# Altium schematic symbol library RLC.SchLib: 155 symbols (part 1 of 2)
Pins are listed as number, name and electrical type; pins without a type are passive.

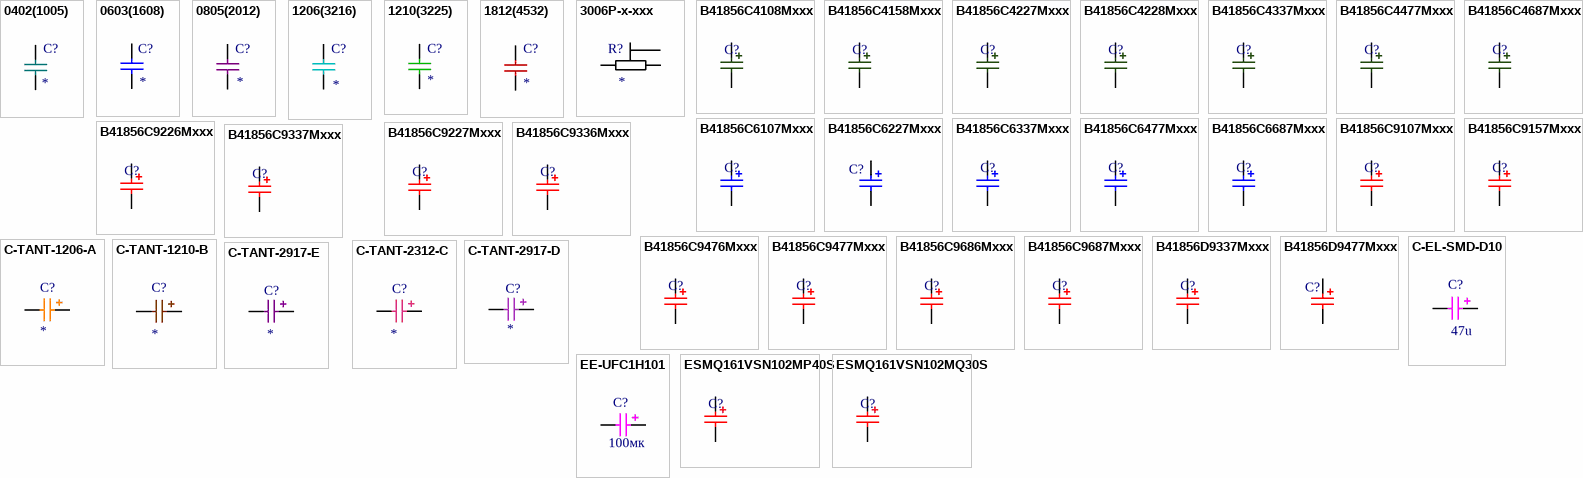
[diagram p0: symbols 0402(1005) to ESMQ161VSN102MQ30S]

## 0402(1005)
designator C?
±10% 50V Ceramic Capacitor X7R 0402; Part Number: CL05BxxxKB5NNNC; Manufacturer: Samsung Electro-Mechanics; TypeComp: Capasitor; ValueDesc: 0402  50V  *Ф ±10%; PVoltage: 50V; Quantity: 1; Package: 0402; Price: 0,1; ShoppingPlace: https://www.digikey.com/product-detail/en/samsung-electro-mechanics/CL05B103KB5NNNC/1276-1028-2-ND/3886686; Tolerance: ±10%; Documentation: http://www.samsungsem.com/kr/support/product-search/mlcc/__icsFiles/afieldfile/2018/07/13/CL05B103KB5NNNC.pdf; ComponentLink1Description: 0402; ComponentLink1URL: http://www.samsungsem.com/kr/support/product-search/mlcc/__icsFiles/afieldfile/2018/07/13/CL05B103KB5NNNC.pdf; Value: *
footprint CAP0402_min
pins: 1, 2

## 0603(1608)
designator C?
±10% 50V Ceramic Capacitor X7R 0603; Part Number: CL10BxxxKB8NNNC; Manufacturer: Samsung Electro-Mechanics; Type: Capasitor; ValueDesc: X7R 0603 (1608)  50V  *Ф ±10%; PVoltage: 50V; Quantity: 1; Package: X7R 0603 (1608); Price: 0,1; ShoppingPlace: https://www.digikey.com/product-detail/en/samsung-electro-mechanics/CL10B104KB8NNNC/1276-1000-2-ND/3886658; Tolerance: ±10%; Documentation: http://www.samsungsem.com/kr/support/product-search/mlcc/__icsFiles/afieldfile/2018/07/24/CL10B104KB8NNNC.pdf; ComponentLink1Description: 0603; ComponentLink1URL: http://www.samsungsem.com/kr/support/product-search/mlcc/__icsFiles/afieldfile/2018/07/24/CL10B104KB8NNNC.pdf; Value: *
footprint CH0603L
pins: 1, 2

## 0805(2012)
designator C?
±5% 50V Ceramic Capacitor C0G, NP0 0805; Part Number: C0805CxxxJ5GACTU; Manufacturer: KEMET; Type: Capasitor; ValueDesc: 0805  50V  *Ф ±5%; PVoltage: 50V; Quantity: 1; Package: 0805; Price: 0,1; ShoppingPlace: https://www.digikey.com/product-detail/en/kemet/C0805C103J5GACTU/399-7992-1-ND/3471715; Tolerance: ±5%; Documentation: https://content.kemet.com/datasheets/KEM_C1003_C0G_SMD.pdf; ComponentLink1Description: 0805; ComponentLink1URL: https://content.kemet.com/datasheets/KEM_C1003_C0G_SMD.pdf; Value: *
footprint CAP0805
pins: 1, 2

## 1206(3216)
designator C?
±5% 50V Ceramic Capacitor C0G, NP0 1206; Part Number: C1206CXXXJ5GACTU; Manufacturer: KEMET; Type: Capasitor; ValueDesc: 1206  50V  *Ф ±5%; PVoltage: 50V; Quantity: 1; Package: 1206; Price: 0,1; ShoppingPlace: https://www.digikey.com/product-detail/en/kemet/C1206C103J5GACTU/399-11177-2-ND/2215038; Tolerance: ±5%; Documentation: https://content.kemet.com/datasheets/KEM_C1003_C0G_SMD.pdf; ComponentLink1Description: 1206; ComponentLink1URL: https://content.kemet.com/datasheets/KEM_C1003_C0G_SMD.pdf; Value: *
footprint CAP1206
pins: 1, 2

## 1210(3225)
designator C?
±10% 50V Ceramic Capacitor X7R 1210 (3225 Metric); Part Number: 12105CXXXKAT2A; Manufacturer: AVX Corporation; Type: Capasitor; ValueDesc: 1210  50V  *Ф ±10%; PVoltage: 50V; Quantity: 1; Package: 1210; Price: 0,1; ShoppingPlace: https://www.digikey.com/product-detail/en/avx-corporation/12105C105KAT2A/478-1622-2-ND/563730; Tolerance: ±10%; Documentation: http://datasheets.avx.com/X7RDielectric.pdf; ComponentLink1Description: 1210; ComponentLink1URL: http://datasheets.avx.com/X7RDielectric.pdf; Value: *
footprint CH1210C (Non polar chip capacitor, size 1210)
pins: 1, 2

## 1812(4532)
designator C?
±10% 100V Ceramic Capacitor X7R 1812 (4532 Metric); Part Number: C4532X7R2AxxxK230KA; Manufacturer: TDK Corporation; Type: Capasitor; Voltage: 100V; Quantity: 1; Package: 1812; Price: 0,2; ShoppingPlace: https://www.digikey.com/product-detail/en/tdk-corporation/C4532X7R2A225K230KA/445-4510-2-ND/2042181; Tolerance: ±10%; Documentation: https://www.digikey.com/product-detail/en/tdk-corporation/C4532X7R2A225K230KA/445-4510-2-ND/2042181; ComponentLink1Description: 1812; ComponentLink1URL: https://www.digikey.com/product-detail/en/tdk-corporation/C4532X7R2A225K230KA/445-4510-2-ND/2042181; ValueDesc: =Package+'  '+PVoltage+'  '+Value+'Ф '+Tolerance+'  '; Value: *
footprint CH1812C
pins: 1, 2

## 3006P-x-xxx
designator R?
3006P-1-103LF, 10 кОм, Резистор подстроечный; Manufacturer: Bourns; Voltage: 50В; TypeComp: Resistor; Power: 0.75W; Part Number: 3006P-1-103LF; Quantity: 1; Package: 3006P; Price: 0,725; ShoppingPlace: https://www.chipdip.by/product/3006p-1-103; Documentation: https://static.chipdip.ru/lib/237/DOC000237854.pdf; ComponentLink1Description: Bourns; ComponentLink1URL: https://static.chipdip.ru/lib/237/DOC000237854.pdf; Value: *
footprint 3006P
pins: 1, 2, 3

## B41856C4108Mxxx
designator C?, comment 680мк  (value not drawn)
Aluminium Electrolytic Capacitors - Radial Leaded ALUMINUM ELECTROLYTIC RADIAL 680 UF 16 V; Part Number: B41856C4108M000; Voltage: 16V; Tolerance: +-20%; TypeComp: Capasitor; GenerateData: Part NumberVoltageValueTolerance; Value: 680мк; Quantity: 1; Package: 10mmx16mm; Price: 1.5; Manufacturer: *; ShoppingPlace: *; Documentation: https://ru.mouser.com/datasheet/2/400/B41856-1220070.pdf; ComponentLink1Description: EPCOS; ComponentLink1URL: https://ru.mouser.com/datasheet/2/400/B41856-1220070.pdf
pins: 1, 2

## B41856C4158Mxxx
designator C?, comment 1500мк  (value not drawn)
Aluminium Electrolytic Capacitors - Radial Leaded ALUMINUM ELECTROLYTIC RADIAL 1500 UF 16 V; Part Number: B41856C4158M000; Voltage: 16V; Tolerance: +-20%; TypeComp: Capasitor; GenerateData: Part NumberVoltageValueTolerance; Value: 1500мк; Quantity: 1; Package: 12.5mmx20mm; Price: 1.5; Manufacturer: *; ShoppingPlace: *; Documentation: https://ru.mouser.com/datasheet/2/400/B41856-1220070.pdf; ComponentLink1Description: EPCOS; ComponentLink1URL: https://ru.mouser.com/datasheet/2/400/B41856-1220070.pdf
pins: 1, 2

## B41856C4227Mxxx
designator C?, comment 220мк  (value not drawn)
Aluminium Electrolytic Capacitors - Radial Leaded ALUMINUM ELECTROLYTIC RADIAL 220 UF 16 V; Part Number: B41856C4227M000; Voltage: 16V; Tolerance: +-20%; TypeComp: Capasitor; GenerateData: Part NumberVoltageValueTolerance; Value: 220мк; Quantity: 1; Package: 8mmx11.5mm; Price: 1.5; Manufacturer: *; ShoppingPlace: *; Documentation: https://ru.mouser.com/datasheet/2/400/B41856-1220070.pdf; ComponentLink1Description: EPCOS; ComponentLink1URL: https://ru.mouser.com/datasheet/2/400/B41856-1220070.pdf
pins: 1, 2

## B41856C4228Mxxx
designator C?, comment 2200мк  (value not drawn)
Aluminium Electrolytic Capacitors - Radial Leaded ALUMINUM ELECTROLYTIC RADIAL 2200 UF 16 V; Part Number: B41856C4228M000; Voltage: 16V; Tolerance: +-20%; TypeComp: Capasitor; GenerateData: Part NumberVoltageValueTolerance; Value: 2200мк; Quantity: 1; Package: 12.5mmx25mm; Price: 1.5; Manufacturer: *; ShoppingPlace: *; Documentation: https://ru.mouser.com/datasheet/2/400/B41856-1220070.pdf; ComponentLink1Description: EPCOS; ComponentLink1URL: https://ru.mouser.com/datasheet/2/400/B41856-1220070.pdf
pins: 1, 2

## B41856C4337Mxxx
designator C?, comment 330мк  (value not drawn)
Aluminium Electrolytic Capacitors - Radial Leaded ALUMINUM ELECTROLYTIC RADIAL 330 UF 16 V; Part Number: B41856C4337M000; Voltage: 16V; Tolerance: +-20%; TypeComp: Capasitor; GenerateData: Part NumberVoltageValueTolerance; Value: 330мк; Quantity: 1; Package: 8mmx11.5mm; Price: 1.5; Manufacturer: *; ShoppingPlace: *; Documentation: https://ru.mouser.com/datasheet/2/400/B41856-1220070.pdf; ComponentLink1Description: EPCOS; ComponentLink1URL: https://ru.mouser.com/datasheet/2/400/B41856-1220070.pdf
pins: 1, 2

## B41856C4477Mxxx
designator C?, comment 470мк  (value not drawn)
Aluminium Electrolytic Capacitors - Radial Leaded ALUMINUM ELECTROLYTIC RADIAL 470 UF 16 V; Part Number: B41856C4477M000; Voltage: 16V; Tolerance: +-20%; TypeComp: Capasitor; GenerateData: Part NumberVoltageValueTolerance; Value: 470мк; Quantity: 1; Package: 10mmx12.5mm; Price: 1.5; Manufacturer: *; ShoppingPlace: *; Documentation: https://ru.mouser.com/datasheet/2/400/B41856-1220070.pdf; ComponentLink1Description: EPCOS; ComponentLink1URL: https://ru.mouser.com/datasheet/2/400/B41856-1220070.pdf
pins: 1, 2

## B41856C4687Mxxx
designator C?, comment 1000мк  (value not drawn)
Aluminium Electrolytic Capacitors - Radial Leaded ALUMINUM ELECTROLYTIC RADIAL 1000 UF 16 V; Part Number: B41856C4687M000; Voltage: 16V; Tolerance: +-20%; TypeComp: Capasitor; GenerateData: Part NumberVoltageValueTolerance; Value: 1000мк; Quantity: 1; Package: 10mmx20mm; Price: 1.5; Manufacturer: *; ShoppingPlace: *; Documentation: https://ru.mouser.com/datasheet/2/400/B41856-1220070.pdf; ComponentLink1Description: EPCOS; ComponentLink1URL: https://ru.mouser.com/datasheet/2/400/B41856-1220070.pdf
pins: 1, 2

## B41856C6107Mxxx
designator C?, comment 100мк  (value not drawn)
Aluminium Electrolytic Capacitors - Radial Leaded ALUMINUM ELECTROLYTIC RADIAL 100 UF 50 V; Part Number: B41856C6107M000; Voltage: 50V; Tolerance: +-20%; TypeComp: Capasitor; GenerateData: Part NumberVoltageValueTolerance; Value: 100мк; Quantity: 1; Package: 8mmx11.5mm; Price: 1.5; Manufacturer: *; ShoppingPlace: *; Documentation: https://ru.mouser.com/datasheet/2/400/B41856-1220070.pdf; ComponentLink1Description: EPCOS; ComponentLink1URL: https://ru.mouser.com/datasheet/2/400/B41856-1220070.pdf
pins: 1, 2

## B41856C6227Mxxx
designator C?, comment 220мк  (value not drawn)
Aluminium Electrolytic Capacitors - Radial Leaded ALUMINUM ELECTROLYTIC RADIAL 220 UF 50 V; Part Number: B41856C6227M000; Voltage: 50V; Tolerance: +-20%; TypeComp: Capasitor; GenerateData: Part NumberVoltageValueTolerance; Value: 220мк; Quantity: 1; Package: 10mmx16mm; Price: 1.5; Manufacturer: *; ShoppingPlace: *; Documentation: https://ru.mouser.com/datasheet/2/400/B41856-1220070.pdf; ComponentLink1Description: EPCOS; ComponentLink1URL: https://ru.mouser.com/datasheet/2/400/B41856-1220070.pdf
pins: 1, 2

## B41856C6337Mxxx
designator C?, comment 330мк  (value not drawn)
Aluminium Electrolytic Capacitors - Radial Leaded ALUMINUM ELECTROLYTIC RADIAL 330 UF 50 V; Part Number: B41856C6337M000; Voltage: 50V; Tolerance: +-20%; TypeComp: Capasitor; GenerateData: Part NumberVoltageValueTolerance; Value: 330мк; Quantity: 1; Package: 10mmx20mm; Price: 1.5; Manufacturer: *; ShoppingPlace: *; Documentation: https://ru.mouser.com/datasheet/2/400/B41856-1220070.pdf; ComponentLink1Description: EPCOS; ComponentLink1URL: https://ru.mouser.com/datasheet/2/400/B41856-1220070.pdf
pins: 1, 2

## B41856C6477Mxxx
designator C?, comment 470мк  (value not drawn)
Aluminium Electrolytic Capacitors - Radial Leaded ALUMINUM ELECTROLYTIC RADIAL 470 UF 50 V; Part Number: B41856C6477M000; Voltage: 50V; Tolerance: +-20%; TypeComp: Capasitor; GenerateData: Part NumberVoltageValueTolerance; Value: 470мк; Quantity: 1; Package: 12.5mmx20mm; Price: 1.5; Manufacturer: *; ShoppingPlace: *; Documentation: https://ru.mouser.com/datasheet/2/400/B41856-1220070.pdf; ComponentLink1Description: EPCOS; ComponentLink1URL: https://ru.mouser.com/datasheet/2/400/B41856-1220070.pdf
pins: 1, 2

## B41856C6687Mxxx
designator C?, comment 680мк  (value not drawn)
Aluminium Electrolytic Capacitors - Radial Leaded ALUMINUM ELECTROLYTIC RADIAL 680 UF 50 V; Part Number: B41856C6687M000; Voltage: 50V; Tolerance: +-20%; TypeComp: Capasitor; GenerateData: Part NumberVoltageValueTolerance; Value: 680мк; Quantity: 1; Package: 12.5mmx25mm; Price: 1.5; Manufacturer: *; ShoppingPlace: *; Documentation: https://ru.mouser.com/datasheet/2/400/B41856-1220070.pdf; ComponentLink1Description: EPCOS; ComponentLink1URL: https://ru.mouser.com/datasheet/2/400/B41856-1220070.pdf
pins: 1, 2

## B41856C9107Mxxx
designator C?, comment 100мк  (value not drawn)
Aluminium Electrolytic Capacitors - Radial Leaded ALUMINUM ELECTROLYTIC RADIAL 100 UF 100 V; Part Number: B41856C9107M000; Voltage: 100V; Tolerance: +-20%; TypeComp: Capasitor; GenerateData: Part NumberVoltageValueTolerance; Value: 100мк; Quantity: 1; Package: 10mmx20mm; Price: 1.5; Manufacturer: *; ShoppingPlace: *; Documentation: https://ru.mouser.com/datasheet/2/400/B41856-1220070.pdf; ComponentLink1Description: EPCOS; ComponentLink1URL: https://ru.mouser.com/datasheet/2/400/B41856-1220070.pdf
pins: 1, 2

## B41856C9157Mxxx
designator C?, comment 150мк  (value not drawn)
Aluminium Electrolytic Capacitors - Radial Leaded ALUMINUM ELECTROLYTIC RADIAL 150 UF 100 V; Part Number: B41856C9157M000; Voltage: 100V; Tolerance: +-20%; TypeComp: Capasitor; GenerateData: Part NumberVoltageValueTolerance; Value: 150мк; Quantity: 1; Package: 12.5mmx20mm; Price: 1.5; Manufacturer: *; ShoppingPlace: *; Documentation: https://ru.mouser.com/datasheet/2/400/B41856-1220070.pdf; ComponentLink1Description: EPCOS; ComponentLink1URL: https://ru.mouser.com/datasheet/2/400/B41856-1220070.pdf
pins: 1, 2

## B41856C9226Mxxx
designator C?, comment 22мк  (value not drawn)
Aluminium Electrolytic Capacitors - Radial Leaded ALUMINUM ELECTROLYTIC RADIAL 22 UF 100 V; Part Number: B41856C9226M000; Voltage: 100V; Tolerance: +-20%; TypeComp: Capasitor; GenerateData: Part NumberVoltageValueTolerance; Value: 22мк; Quantity: 1; Package: 8mmx11.5mm; Price: 1.5; Manufacturer: *; ShoppingPlace: *; Documentation: https://ru.mouser.com/datasheet/2/400/B41856-1220070.pdf; ComponentLink1Description: EPCOS; ComponentLink1URL: https://ru.mouser.com/datasheet/2/400/B41856-1220070.pdf
pins: 1, 2

## B41856C9227Mxxx
designator C?, comment 220мк  (value not drawn)
Aluminium Electrolytic Capacitors - Radial Leaded ALUMINUM ELECTROLYTIC RADIAL 220 UF 100 V; Part Number: B41856C9227M000; Voltage: 100V; Tolerance: +-20%; TypeComp: Capasitor; GenerateData: Part NumberVoltageValueTolerance; Value: 220мк; Quantity: 1; Package: 16mmx20mm; Price: 1.5; Manufacturer: *; ShoppingPlace: *; Documentation: https://ru.mouser.com/datasheet/2/400/B41856-1220070.pdf; ComponentLink1Description: EPCOS; ComponentLink1URL: https://ru.mouser.com/datasheet/2/400/B41856-1220070.pdf
pins: 1, 2

## B41856C9336Mxxx
designator C?, comment 33мк  (value not drawn)
Aluminium Electrolytic Capacitors - Radial Leaded ALUMINUM ELECTROLYTIC RADIAL 33 UF 100 V; Part Number: B41856C9336M000; Voltage: 100V; Tolerance: +-20%; TypeComp: Capasitor; GenerateData: Part NumberVoltageValueTolerance; Value: 33мк; Quantity: 1; Package: 8mmx11.5mm; Price: 1.5; Manufacturer: *; ShoppingPlace: *; Documentation: https://ru.mouser.com/datasheet/2/400/B41856-1220070.pdf; ComponentLink1Description: EPCOS; ComponentLink1URL: https://ru.mouser.com/datasheet/2/400/B41856-1220070.pdf
pins: 1, 2

## B41856C9337Mxxx
designator C?, comment 330мк  (value not drawn)
Aluminium Electrolytic Capacitors - Radial Leaded ALUMINUM ELECTROLYTIC RADIAL 330 UF 100 V; Part Number: B41856C9337M000; Voltage: 100V; Tolerance: +-20%; TypeComp: Capasitor; GenerateData: Part NumberVoltageValueTolerance; Value: 330мк; Quantity: 1; Package: 16mmx25mm; Price: 1.5; Manufacturer: *; ShoppingPlace: *; Documentation: https://ru.mouser.com/datasheet/2/400/B41856-1220070.pdf; ComponentLink1Description: EPCOS; ComponentLink1URL: https://ru.mouser.com/datasheet/2/400/B41856-1220070.pdf
pins: 1, 2

## B41856C9476Mxxx
designator C?, comment 47мк  (value not drawn)
Aluminium Electrolytic Capacitors - Radial Leaded ALUMINUM ELECTROLYTIC RADIAL 47 UF 100 V; Part Number: B41856C9476M000; Voltage: 100V; Tolerance: +-20%; TypeComp: Capasitor; GenerateData: Part NumberVoltageValueTolerance; Value: 47мк; Quantity: 1; Package: 10mmx12.5mm; Price: 1.5; Manufacturer: *; ShoppingPlace: *; Documentation: https://ru.mouser.com/datasheet/2/400/B41856-1220070.pdf; ComponentLink1Description: EPCOS; ComponentLink1URL: https://ru.mouser.com/datasheet/2/400/B41856-1220070.pdf
pins: 1, 2

## B41856C9477Mxxx
designator C?, comment 470мк  (value not drawn)
Aluminium Electrolytic Capacitors - Radial Leaded ALUMINUM ELECTROLYTIC RADIAL 470 UF 100 V; Part Number: B41856C9477M000; Voltage: 100V; Tolerance: +-20%; TypeComp: Capasitor; GenerateData: Part NumberVoltageValueTolerance; Value: 470мк; Quantity: 1; Package: 16mm x 31.5mm; Price: 1.5; Manufacturer: *; ShoppingPlace: *; Documentation: https://ru.mouser.com/datasheet/2/400/B41856-1220070.pdf; ComponentLink1Description: EPCOS; ComponentLink1URL: https://ru.mouser.com/datasheet/2/400/B41856-1220070.pdf
pins: 1, 2

## B41856C9686Mxxx
designator C?, comment 68мк  (value not drawn)
Aluminium Electrolytic Capacitors - Radial Leaded ALUMINUM ELECTROLYTIC RADIAL 68 UF 100 V; Part Number: B41856C9686M000; Voltage: 100V; Tolerance: +-20%; TypeComp: Capasitor; GenerateData: Part NumberVoltageValueTolerance; Value: 68мк; Quantity: 1; Package: 10mmx16mm; Price: 1.5; Manufacturer: *; ShoppingPlace: *; Documentation: https://ru.mouser.com/datasheet/2/400/B41856-1220070.pdf; ComponentLink1Description: EPCOS; ComponentLink1URL: https://ru.mouser.com/datasheet/2/400/B41856-1220070.pdf
pins: 1, 2

## B41856C9687Mxxx
designator C?, comment 680мк  (value not drawn)
Aluminium Electrolytic Capacitors - Radial Leaded ALUMINUM ELECTROLYTIC RADIAL 680 UF 100 V; Part Number: B41856C9687M000; Voltage: 100V; Tolerance: +-20%; TypeComp: Capasitor; GenerateData: Part NumberVoltageValueTolerance; Value: 680мк; Quantity: 1; Package: 18mm x 35mm; Price: 1.5; Manufacturer: *; ShoppingPlace: *; Documentation: https://ru.mouser.com/datasheet/2/400/B41856-1220070.pdf; ComponentLink1Description: EPCOS; ComponentLink1URL: https://ru.mouser.com/datasheet/2/400/B41856-1220070.pdf
pins: 1, 2

## B41856D9337Mxxx
designator C?, comment 330мк  (value not drawn)
Aluminium Electrolytic Capacitors - Radial Leaded ALUMINUM ELECTROLYTIC RADIAL 330 UF 100 V; Part Number: B41856D9337M000; Voltage: 100V; Tolerance: +-20%; TypeComp: Capasitor; GenerateData: Part NumberVoltageValueTolerance; Value: 330мк; Quantity: 1; Package: 18mmx20mm; Price: 1.5; Manufacturer: *; ShoppingPlace: *; Documentation: https://ru.mouser.com/datasheet/2/400/B41856-1220070.pdf; ComponentLink1Description: EPCOS; ComponentLink1URL: https://ru.mouser.com/datasheet/2/400/B41856-1220070.pdf
pins: 1, 2

## B41856D9477Mxxx
designator C?, comment 470мк  (value not drawn)
Aluminium Electrolytic Capacitors - Radial Leaded ALUMINUM ELECTROLYTIC RADIAL 470 UF 100 V; Part Number: B41856D9477M000; Voltage: 100V; Tolerance: +-20%; TypeComp: Capasitor; GenerateData: Part NumberVoltageValueTolerance; Value: 470мк; Quantity: 1; Package: 18mm x 25mm; Price: 1.5; Manufacturer: *; ShoppingPlace: *; Documentation: https://ru.mouser.com/datasheet/2/400/B41856-1220070.pdf; ComponentLink1Description: EPCOS; ComponentLink1URL: https://ru.mouser.com/datasheet/2/400/B41856-1220070.pdf
footprint C-1825 (18mmx25mm)
pins: 1 2, 2

## C-EL-SMD-D10
designator C?, comment 47u
47µF 50V Aluminum Electrolytic Capacitors Radial, Can - SMD 1000 Hrs @ 105°C; Part Number: EEE-FC1H470P; Manufacturer: Panasonic Electronic; Voltage: 50В; Tolerance: +-5%; TypeComp: Capasitors; ESR: 0.1; Valuedesc: 'Power'+'Value'+'Package'+'Tolerance'; Quantity: 1; Package: 10.30x10.30mm; Price: 0.68; ShoppingPlace: https://www.digikey.com/product-detail/en/panasonic-electronic-components/EEE-FC1H470P/PCE4020TR-ND/817429; Documentation: https://industrial.panasonic.com/ww/products/capacitors/aluminum-capacitors/aluminum-cap-smd/fc-v/EEEFC1H470P; ComponentLink1Description: Panasonic Electronic Components; ComponentLink1URL: https://industrial.panasonic.com/cdbs/www-data/pdf/RDE0000/ABA0000C1172.pdf; Value: 47u
footprint Cap_Elect_Type_G
pins: 1, 2

## C-TANT-1206-A
designator С?
Molded Tantalum Capacitors 20V 1206 (3216 Metric); Part Number: TAJAxxxM020RNJ; Manufacturer: AVX Corporation; Tolerance: ±20%; TypeComp: Capasitor; ESR: 9 om; Voltage: 20V; Quantity: 1; Package: TypeA; Price: 0,4; ShoppingPlace: https://www.digikey.com/product-detail/en/avx-corporation/TAJA105M020RNJ/478-5748-2-ND/2136308; Documentation: http://datasheets.avx.com/TAJ.pdf; ComponentLink1Description: TypeA; ComponentLink1URL: http://datasheets.avx.com/TAJ.pdf; ValueDesc: ='Танталовый конденсатор '+Power+' '+Value+' '+Package+' '+Tolerance; Value: *
footprint C-TANT-1206-A
pins: 1, 2

## C-TANT-1210-B
designator С?
CAP TANT  20% 6.3V 1411; Part Number: TAJBXXX006RNJ; Manufacturer: AVX Corporation; TypeComp: Capasitor; ESR: 3Ohm; ValueDesc: 'Power'+'Value'+'Package'+'Tolerance'; Voltage: 6.3V; Quantity: 1; Package: TypeB; Price: 0,4; ShoppingPlace: https://www.digikey.com/product-detail/en/avx-corporation/TAJB106M006RNJ/478-3874-2-ND/1126802; Tolerance: ±20%; Documentation: http://datasheets.avx.com/TAJ.pdf; ComponentLink1Description: Type B; ComponentLink1URL: http://datasheets.avx.com/TAJ.pdf; Value: *
footprint C-TANT-1210-B
pins: 1, 2

## C-TANT-2312-C
designator С?
Molded Tantalum Capacitors 16V 2312 (6032 Metric) 2 Ohm; Part Number: TAJC106M016RNJ; Manufacturer: AVX Corporation; Tolerance: ±20%; TypeComp: Capasitor; ESR: 2Ohm; Valuedesc: 'Power'+'Value'+'Package'+'Tolerance'; Voltage: 16V; Quantity: 1; Package: TypeC; Price: 0,5; ShoppingPlace: https://www.digikey.com/product-detail/en/avx-corporation/TAJC106M016RNJ/478-1702-2-ND/563807; Documentation: http://datasheets.avx.com/TAJ.pdf; ComponentLink1Description: Type C; ComponentLink1URL: http://datasheets.avx.com/TAJ.pdf; Value: *
footprint C-TANT-2312-C
pins: 1, 2

## C-TANT-2917-D
designator С?
Molded Tantalum Capacitors 20V 2917 (7343 Metric) 900 mOhm; Part Number: TAJDxxxK020RNJ; Manufacturer: AVX Corporation; Tolerance: ±20%; TypeComp: Capasitor; ESR: 300mOhm; ValueDesc: 'Power'+'Value'+'Package'+'Tolerance'; Voltage: 20V; Quantity: 1; Package: TypeD; Price: 0,5; ShoppingPlace: https://www.digikey.com/product-detail/en/avx-corporation/TAJD226K020RNJ/478-3923-2-ND/1126851; Documentation: http://datasheets.avx.com/TAJ.pdf; ComponentLink1Description: TypeD; ComponentLink1URL: http://datasheets.avx.com/TAJ.pdf; Value: *
footprint C-TANT-2917-D
pins: 1, 2

## C-TANT-2917-E
designator С?
Molded Tantalum Capacitors 20V 2917 (7343 Metric) 400 mOhm; Part Number: TAJExxxK020RNJ; Manufacturer: AVX Corporation; Tolerance: ±20%; TypeComp: Capasitor; Voltage: 20V; Quantity: 1; Package: TypeE; Price: 0,5; ShoppingPlace: https://www.digikey.com/product-detail/en/avx-corporation/TAJE107K020RNJ/478-1746-2-ND/563850; Documentation: http://datasheets.avx.com/TAJ.pdf; ESR: 400mOhm; ComponentLink1Description: TypeE; ComponentLink1URL: http://datasheets.avx.com/TAJ.pdf; Value: *
footprint C-TANT-2917-E
pins: 1, 2

## EE-UFC1H101
designator C?, comment 100мк
10mmx12.5mm-100µF 50V Aluminum Electrolytic Capacitors Radial, Can 3000 Hrs @ 105°C; Part Number: EEU-FC1H101; Manufacturer: Panasonic Electronic; Voltage: 50В; Tolerance: +-20%; TypeComp: Capasitors; ESR: 0.1; ValueDesc: Электролитический конденсатор +'PartNumber'+'Package'+'Manufacturer'; Quantity: 1; Package: 10mmx12.5mm; Price: 0.48; ShoppingPlace: https://www.digikey.com/product-detail/en/panasonic-electronic-components/EEU-FC1H101/P10323-ND/266332; Documentation: https://industrial.panasonic.com/cdbs/www-data/pdf/RDF0000/ABA0000C1209.pdf; ComponentLink1Description: Panasonic Electronic Components; ComponentLink1URL: https://industrial.panasonic.com/cdbs/www-data/pdf/RDF0000/ABA0000C1209.pdf; Value: 100мк
footprint CaP10mmx12.5mm
pins: 1, 2

## ESMQ161VSN102MP40S
designator C?, comment 1000мк  (value not drawn)
Aluminium Electrolytic Capacitors - Radial Leaded ALUMINUM ELECTROLYTIC RADIAL 100UF 160 V; Part Number: ESMQ161VSN102MP40S; Voltage: 160V; Tolerance: +-20%; TypeComp: Capasitor; Value: 1000мк; Quantity: 1; Package: 22mm×40mm; Price: *; Manufacturer: *; ShoppingPlace: *; Documentation: https://ru.mouser.com/datasheet/2/420/United-Chemi-Con-552877.pdf
pins: 1, 2

## ESMQ161VSN102MQ30S
designator C?, comment 1000мк  (value not drawn)
Aluminium Electrolytic Capacitors - Radial Leaded ALUMINUM ELECTROLYTIC RADIAL 1000UF 160 V; Part Number: ESMQ161VSN102MQ30S; Voltage: 160V; Tolerance: +-20%; TypeComp: Capasitor; Value: 1000мк; Quantity: 1; Package: 25.4mm×30mm; Price: *; Manufacturer: *; ShoppingPlace: *; Documentation: https://ru.mouser.com/datasheet/2/420/United-Chemi-Con-552877.pdf
pins: 1, 2

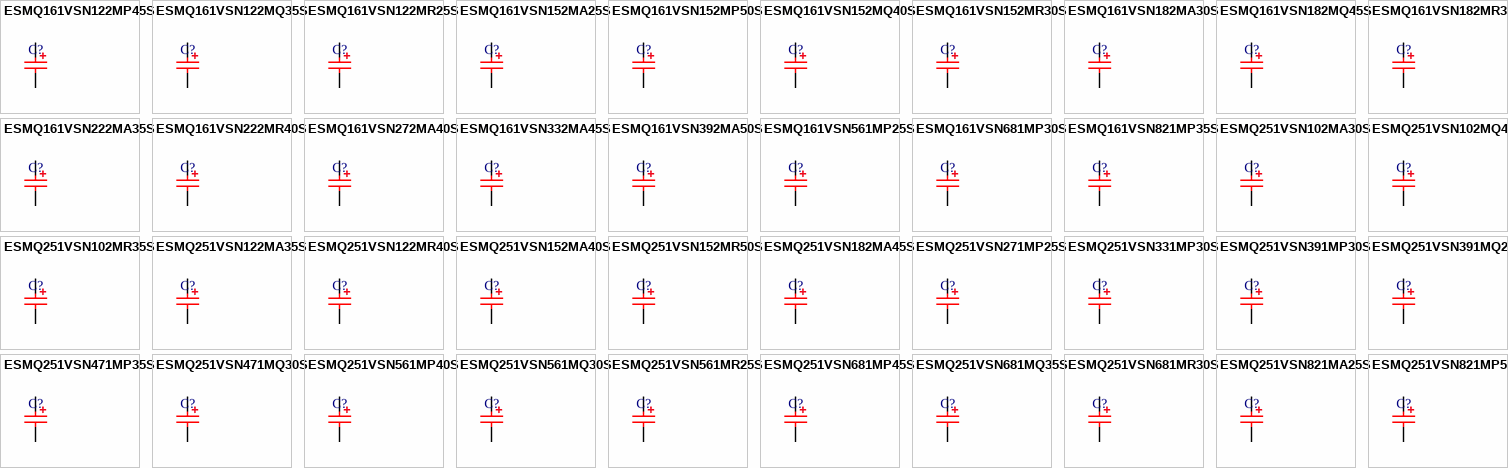
[diagram p1: symbols ESMQ161VSN122MP45S to ESMQ251VSN821MP50S]

## ESMQ161VSN122MP45S
designator C?, comment 1,200мк  (value not drawn)
Aluminium Electrolytic Capacitors - Radial Leaded ALUMINUM ELECTROLYTIC RADIAL 1200UF 160 V; Part Number: ESMQ161VSN122MP45S; Voltage: 160V; Tolerance: +-20%; TypeComp: Capasitor; Value: 1,200мк; Quantity: 1; Package: 22mm×45mm; Price: *; Manufacturer: *; ShoppingPlace: *; Documentation: https://ru.mouser.com/datasheet/2/420/United-Chemi-Con-552877.pdf
pins: 1, 2

## ESMQ161VSN122MQ35S
designator C?, comment 1200мк  (value not drawn)
Aluminium Electrolytic Capacitors - Radial Leaded ALUMINUM ELECTROLYTIC RADIAL 1200UF 160 V; Part Number: ESMQ161VSN122MQ35S; Voltage: 160V; Tolerance: +-20%; TypeComp: Capasitor; Value: 1200мк; Quantity: 1; Package: 25.4mm×35mm; Price: *; Manufacturer: *; ShoppingPlace: *; Documentation: https://ru.mouser.com/datasheet/2/420/United-Chemi-Con-552877.pdf
pins: 1, 2

## ESMQ161VSN122MR25S
designator C?, comment 1200мк  (value not drawn)
Aluminium Electrolytic Capacitors - Radial Leaded ALUMINUM ELECTROLYTIC RADIAL 1200UF 160 V; Part Number: ESMQ161VSN122MR25S; Voltage: 160V; Tolerance: +-20%; TypeComp: Capasitor; Value: 1200мк; Quantity: 1; Package: 30mm×25mm; Price: *; Manufacturer: *; ShoppingPlace: *; Documentation: https://ru.mouser.com/datasheet/2/420/United-Chemi-Con-552877.pdf
pins: 1, 2

## ESMQ161VSN152MA25S
designator C?, comment 1500мк  (value not drawn)
Aluminium Electrolytic Capacitors - Radial Leaded ALUMINUM ELECTROLYTIC RADIAL 1500UF 160 V; Part Number: ESMQ161VSN152MA25S; Voltage: 160V; Tolerance: +-20%; TypeComp: Capasitor; Value: 1500мк; Quantity: 1; Package: 35mm×25mm; Price: *; Manufacturer: *; ShoppingPlace: *; Documentation: https://ru.mouser.com/datasheet/2/420/United-Chemi-Con-552877.pdf
pins: 1, 2

## ESMQ161VSN152MP50S
designator C?, comment 1500мк  (value not drawn)
Aluminium Electrolytic Capacitors - Radial Leaded ALUMINUM ELECTROLYTIC RADIAL 1500UF 160 V; Part Number: ESMQ161VSN152MP50S; Voltage: 160V; Tolerance: +-20%; TypeComp: Capasitor; Value: 1500мк; Quantity: 1; Package: 22mm×50mm; Price: *; Manufacturer: *; ShoppingPlace: *; Documentation: https://ru.mouser.com/datasheet/2/420/United-Chemi-Con-552877.pdf
pins: 1, 2

## ESMQ161VSN152MQ40S
designator C?, comment 1500мк  (value not drawn)
Aluminium Electrolytic Capacitors - Radial Leaded ALUMINUM ELECTROLYTIC RADIAL 1500UF 160 V; Part Number: ESMQ161VSN152MQ40S; Voltage: 160V; Tolerance: +-20%; TypeComp: Capasitor; Value: 1500мк; Quantity: 1; Package: 25.4mm×40mm; Price: *; Manufacturer: *; ShoppingPlace: *; Documentation: https://ru.mouser.com/datasheet/2/420/United-Chemi-Con-552877.pdf
pins: 1, 2

## ESMQ161VSN152MR30S
designator C?, comment 1500мк  (value not drawn)
Aluminium Electrolytic Capacitors - Radial Leaded ALUMINUM ELECTROLYTIC RADIAL 1500UF 160 V; Part Number: ESMQ161VSN152MR30S; Voltage: 160V; Tolerance: +-20%; TypeComp: Capasitor; Value: 1500мк; Quantity: 1; Package: 30mm×30mm; Price: *; Manufacturer: *; ShoppingPlace: *; Documentation: https://ru.mouser.com/datasheet/2/420/United-Chemi-Con-552877.pdf
pins: 1, 2

## ESMQ161VSN182MA30S
designator C?, comment 1800мк  (value not drawn)
Aluminium Electrolytic Capacitors - Radial Leaded ALUMINUM ELECTROLYTIC RADIAL 1800UF 160 V; Part Number: ESMQ161VSN182MA30S; Voltage: 160V; Tolerance: +-20%; TypeComp: Capasitor; Value: 1800мк; Quantity: 1; Package: 35mm×30mm; Price: *; Manufacturer: *; ShoppingPlace: *; Documentation: https://ru.mouser.com/datasheet/2/420/United-Chemi-Con-552877.pdf
pins: 1, 2

## ESMQ161VSN182MQ45S
designator C?, comment 1800мк  (value not drawn)
Aluminium Electrolytic Capacitors - Radial Leaded ALUMINUM ELECTROLYTIC RADIAL 1800UF 160 V; Part Number: ESMQ161VSN182MQ45S; Voltage: 160V; Tolerance: +-20%; TypeComp: Capasitor; Value: 1800мк; Quantity: 1; Package: 25.4mm×45mm; Price: *; Manufacturer: *; ShoppingPlace: *; Documentation: https://ru.mouser.com/datasheet/2/420/United-Chemi-Con-552877.pdf
pins: 1, 2

## ESMQ161VSN182MR35S
designator C?, comment 1800мк  (value not drawn)
Aluminium Electrolytic Capacitors - Radial Leaded ALUMINUM ELECTROLYTIC RADIAL 1800UF 160 V; Part Number: ESMQ161VSN182MR35S; Voltage: 160V; Tolerance: +-20%; TypeComp: Capasitor; Value: 1800мк; Quantity: 1; Package: 30mm x 35mm; Price: *; Manufacturer: *; ShoppingPlace: *; Documentation: https://ru.mouser.com/datasheet/2/420/United-Chemi-Con-552877.pdf
pins: 1, 2

## ESMQ161VSN222MA35S
designator C?, comment 2200мк  (value not drawn)
Aluminium Electrolytic Capacitors - Radial Leaded ALUMINUM ELECTROLYTIC RADIAL 2200UF 160 V; Part Number: ESMQ161VSN222MA35S; Voltage: 160V; Tolerance: +-20%; TypeComp: Capasitor; Value: 2200мк; Quantity: 1; Package: 35mm×35mm; Price: *; Manufacturer: *; ShoppingPlace: *; Documentation: https://ru.mouser.com/datasheet/2/420/United-Chemi-Con-552877.pdf
pins: 1, 2

## ESMQ161VSN222MR40S
designator C?, comment 2200мк  (value not drawn)
Aluminium Electrolytic Capacitors - Radial Leaded ALUMINUM ELECTROLYTIC RADIAL 2200UF 160 V; Part Number: ESMQ161VSN222MR40S; Voltage: 160V; Tolerance: +-20%; TypeComp: Capasitor; Value: 2200мк; Quantity: 1; Package: 30mm×40mm; Price: *; Manufacturer: *; ShoppingPlace: *; Documentation: https://ru.mouser.com/datasheet/2/420/United-Chemi-Con-552877.pdf
pins: 1, 2

## ESMQ161VSN272MA40S
designator C?, comment 2700мк  (value not drawn)
Aluminium Electrolytic Capacitors - Radial Leaded ALUMINUM ELECTROLYTIC RADIAL 2700UF 160 V; Part Number: ESMQ161VSN272MA40S; Voltage: 160V; Tolerance: +-20%; TypeComp: Capasitor; Value: 2700мк; Quantity: 1; Package: 35mm×40mm; Price: *; Manufacturer: *; ShoppingPlace: *; Documentation: https://ru.mouser.com/datasheet/2/420/United-Chemi-Con-552877.pdf
pins: 1, 2

## ESMQ161VSN332MA45S
designator C?, comment 3300мк  (value not drawn)
Aluminium Electrolytic Capacitors - Radial Leaded ALUMINUM ELECTROLYTIC RADIAL 3300UF 160 V; Part Number: ESMQ161VSN332MA45S; Voltage: 160V; Tolerance: +-20%; TypeComp: Capasitor; Value: 3300мк; Quantity: 1; Package: 35mm×45mm; Price: *; Manufacturer: *; ShoppingPlace: *; Documentation: https://ru.mouser.com/datasheet/2/420/United-Chemi-Con-552877.pdf
pins: 1, 2

## ESMQ161VSN392MA50S
designator C?, comment 3900мк  (value not drawn)
Aluminium Electrolytic Capacitors - Radial Leaded ALUMINUM ELECTROLYTIC RADIAL 3900UF 160 V; Part Number: ESMQ161VSN392MA50S; Voltage: 160V; Tolerance: +-20%; TypeComp: Capasitor; Value: 3900мк; Quantity: 1; Package: 35mm×40mm; Price: *; Manufacturer: *; ShoppingPlace: *; Documentation: https://ru.mouser.com/datasheet/2/420/United-Chemi-Con-552877.pdf
pins: 1, 2

## ESMQ161VSN561MP25S
designator C?, comment 560мк  (value not drawn)
Aluminium Electrolytic Capacitors - Radial Leaded ALUMINUM ELECTROLYTIC RADIAL 560UF 160 V; Part Number: ESMQ161VSN561MP25S; Voltage: 160V; Tolerance: +-20%; TypeComp: Capasitor; Value: 560мк; Quantity: 1; Package: 22mm×25mm; Price: *; Manufacturer: *; ShoppingPlace: *; Documentation: https://ru.mouser.com/datasheet/2/420/United-Chemi-Con-552877.pdf
pins: 1, 2

## ESMQ161VSN681MP30S
designator C?, comment 680мк  (value not drawn)
Aluminium Electrolytic Capacitors - Radial Leaded ALUMINUM ELECTROLYTIC RADIAL 680UF 160 V; Part Number: ESMQ161VSN681MP30S; Voltage: 160V; Tolerance: +-20%; TypeComp: Capasitor; Value: 680мк; Quantity: 1; Package: 22mm×30mm; Price: *; Manufacturer: *; ShoppingPlace: *; Documentation: https://ru.mouser.com/datasheet/2/420/United-Chemi-Con-552877.pdf
pins: 1, 2

## ESMQ161VSN821MP35S
designator C?, comment 820мк  (value not drawn)
Aluminium Electrolytic Capacitors - Radial Leaded ALUMINUM ELECTROLYTIC RADIAL 820UF 160 V; Part Number: ESMQ161VSN821MP35S; Voltage: 160V; Tolerance: +-20%; TypeComp: Capasitor; Value: 820мк; Quantity: 1; Package: 22mm×35mm; Price: *; Manufacturer: *; ShoppingPlace: *; Documentation: https://ru.mouser.com/datasheet/2/420/United-Chemi-Con-552877.pdf
pins: 1, 2

## ESMQ251VSN102MA30S
designator C?, comment 1000мк  (value not drawn)
Aluminium Electrolytic Capacitors - Radial Leaded ALUMINUM ELECTROLYTIC RADIAL 1000UF 250 V; Part Number: ESMQ161VSN821MP35S; Voltage: 250V; Tolerance: +-20%; TypeComp: Capasitor; Value: 1000мк; Quantity: 1; Package: 35mm×30mm; Price: *; Manufacturer: *; ShoppingPlace: *; Documentation: https://ru.mouser.com/datasheet/2/420/United-Chemi-Con-552877.pdf
pins: 1, 2

## ESMQ251VSN102MQ45S
designator C?, comment 1000мк  (value not drawn)
Aluminium Electrolytic Capacitors - Radial Leaded ALUMINUM ELECTROLYTIC RADIAL 1000UF 250 V; Part Number: ESMQ161VSN821MP35S; Voltage: 250V; Tolerance: +-20%; TypeComp: Capasitor; Value: 1000мк; Quantity: 1; Package: 25.4mm×45mm; Price: *; Manufacturer: *; ShoppingPlace: *; Documentation: https://ru.mouser.com/datasheet/2/420/United-Chemi-Con-552877.pdf
pins: 1, 2

## ESMQ251VSN102MR35S
designator C?, comment 1000мк  (value not drawn)
Aluminium Electrolytic Capacitors - Radial Leaded ALUMINUM ELECTROLYTIC RADIAL 1000UF 250 V; Part Number: ESMQ161VSN821MP35S; Voltage: 250V; Tolerance: +-20%; TypeComp: Capasitor; Value: 1000мк; Quantity: 1; Package: 30mm×35mm; Price: *; Manufacturer: *; ShoppingPlace: *; Documentation: https://ru.mouser.com/datasheet/2/420/United-Chemi-Con-552877.pdf
pins: 1, 2

## ESMQ251VSN122MA35S
designator C?, comment 1200мк  (value not drawn)
Aluminium Electrolytic Capacitors - Radial Leaded ALUMINUM ELECTROLYTIC RADIAL 1200UF 250 V; Part Number: ESMQ161VSN821MP35S; Voltage: 250V; Tolerance: +-20%; TypeComp: Capasitor; Value: 1200мк; Quantity: 1; Package: 35mm×35mm; Price: *; Manufacturer: *; ShoppingPlace: *; Documentation: https://ru.mouser.com/datasheet/2/420/United-Chemi-Con-552877.pdf
pins: 1, 2

## ESMQ251VSN122MR40S
designator C?, comment 1200мк  (value not drawn)
Aluminium Electrolytic Capacitors - Radial Leaded ALUMINUM ELECTROLYTIC RADIAL 1200UF 250 V; Part Number: ESMQ161VSN821MP35S; Voltage: 250V; Tolerance: +-20%; TypeComp: Capasitor; Value: 1200мк; Quantity: 1; Package: 30mm×40mm; Price: *; Manufacturer: *; ShoppingPlace: *; Documentation: https://ru.mouser.com/datasheet/2/420/United-Chemi-Con-552877.pdf
pins: 1, 2

## ESMQ251VSN152MA40S
designator C?, comment 1500мк  (value not drawn)
Aluminium Electrolytic Capacitors - Radial Leaded ALUMINUM ELECTROLYTIC RADIAL 1500UF 250 V; Part Number: ESMQ161VSN821MP35S; Voltage: 250V; Tolerance: +-20%; TypeComp: Capasitor; Value: 1500мк; Quantity: 1; Package: 35mm×40mm; Price: *; Manufacturer: *; ShoppingPlace: *; Documentation: https://ru.mouser.com/datasheet/2/420/United-Chemi-Con-552877.pdf
pins: 1, 2

## ESMQ251VSN152MR50S
designator C?, comment 1500мк  (value not drawn)
Aluminium Electrolytic Capacitors - Radial Leaded ALUMINUM ELECTROLYTIC RADIAL 1500UF 250 V; Part Number: ESMQ161VSN821MP35S; Voltage: 250V; Tolerance: +-20%; TypeComp: Capasitor; Value: 1500мк; Quantity: 1; Package: 30mm×50mm; Price: *; Manufacturer: *; ShoppingPlace: *; Documentation: https://ru.mouser.com/datasheet/2/420/United-Chemi-Con-552877.pdf
pins: 1, 2

## ESMQ251VSN182MA45S
designator C?, comment 1800мк  (value not drawn)
Aluminium Electrolytic Capacitors - Radial Leaded ALUMINUM ELECTROLYTIC RADIAL 1800UF 250 V; Part Number: ESMQ161VSN821MP35S; Voltage: 250V; Tolerance: +-20%; TypeComp: Capasitor; Value: 1800мк; Quantity: 1; Package: 35mm×45mm; Price: *; Manufacturer: *; ShoppingPlace: *; Documentation: https://ru.mouser.com/datasheet/2/420/United-Chemi-Con-552877.pdf
pins: 1, 2

## ESMQ251VSN271MP25S
designator C?, comment 270мк  (value not drawn)
Aluminium Electrolytic Capacitors - Radial Leaded ALUMINUM ELECTROLYTIC RADIAL 270UF 250 V; Part Number: ESMQ161VSN821MP35S; Voltage: 250V; Tolerance: +-20%; TypeComp: Capasitor; Value: 270мк; Quantity: 1; Package: 22mm×25mm; Price: *; Manufacturer: *; ShoppingPlace: *; Documentation: https://ru.mouser.com/datasheet/2/420/United-Chemi-Con-552877.pdf
pins: 1, 2

## ESMQ251VSN331MP30S
designator C?, comment 330мк  (value not drawn)
Aluminium Electrolytic Capacitors - Radial Leaded ALUMINUM ELECTROLYTIC RADIAL 330UF 250 V; Part Number: ESMQ161VSN821MP35S; Voltage: 250V; Tolerance: +-20%; TypeComp: Capasitor; Value: 330мк; Quantity: 1; Package: 22mm×30mm; Price: *; Manufacturer: *; ShoppingPlace: *; Documentation: https://ru.mouser.com/datasheet/2/420/United-Chemi-Con-552877.pdf
pins: 1, 2

## ESMQ251VSN391MP30S
designator C?, comment 390мк  (value not drawn)
Aluminium Electrolytic Capacitors - Radial Leaded ALUMINUM ELECTROLYTIC RADIAL 390UF 250 V; Part Number: ESMQ161VSN821MP35S; Voltage: 250V; Tolerance: +-20%; TypeComp: Capasitor; Value: 390мк; Quantity: 1; Package: 22mm×30mm; Price: *; Manufacturer: *; ShoppingPlace: *; Documentation: https://ru.mouser.com/datasheet/2/420/United-Chemi-Con-552877.pdf
pins: 1, 2

## ESMQ251VSN391MQ25S
designator C?, comment 390мк  (value not drawn)
Aluminium Electrolytic Capacitors - Radial Leaded ALUMINUM ELECTROLYTIC RADIAL 390UF 250 V; Part Number: ESMQ161VSN821MP35S; Voltage: 250V; Tolerance: +-20%; TypeComp: Capasitor; Value: 390мк; Quantity: 1; Package: 25.4mm×25mm; Price: *; Manufacturer: *; ShoppingPlace: *; Documentation: https://ru.mouser.com/datasheet/2/420/United-Chemi-Con-552877.pdf
pins: 1, 2

## ESMQ251VSN471MP35S
designator C?, comment 470мк  (value not drawn)
Aluminium Electrolytic Capacitors - Radial Leaded ALUMINUM ELECTROLYTIC RADIAL 470UF 250 V; Part Number: ESMQ161VSN821MP35S; Voltage: 250V; Tolerance: +-20%; TypeComp: Capasitor; Value: 470мк; Quantity: 1; Package: 22mm×35mm; Price: *; Manufacturer: *; ShoppingPlace: *; Documentation: https://ru.mouser.com/datasheet/2/420/United-Chemi-Con-552877.pdf
pins: 1, 2

## ESMQ251VSN471MQ30S
designator C?, comment 470мк  (value not drawn)
Aluminium Electrolytic Capacitors - Radial Leaded ALUMINUM ELECTROLYTIC RADIAL 470UF 250 V; Part Number: ESMQ161VSN821MP35S; Voltage: 250V; Tolerance: +-20%; TypeComp: Capasitor; Value: 470мк; Quantity: 1; Package: 25.4mm×30mm; Price: *; Manufacturer: *; ShoppingPlace: *; Documentation: https://ru.mouser.com/datasheet/2/420/United-Chemi-Con-552877.pdf
pins: 1, 2

## ESMQ251VSN561MP40S
designator C?, comment 560мк  (value not drawn)
Aluminium Electrolytic Capacitors - Radial Leaded ALUMINUM ELECTROLYTIC RADIAL 560UF 250 V; Part Number: ESMQ161VSN821MP35S; Voltage: 250V; Tolerance: +-20%; TypeComp: Capasitor; Value: 560мк; Quantity: 1; Package: 22mm×40mm; Price: *; Manufacturer: *; ShoppingPlace: *; Documentation: https://ru.mouser.com/datasheet/2/420/United-Chemi-Con-552877.pdf
pins: 1, 2

## ESMQ251VSN561MQ30S
designator C?, comment 560мк  (value not drawn)
Aluminium Electrolytic Capacitors - Radial Leaded ALUMINUM ELECTROLYTIC RADIAL 560UF 250 V; Part Number: ESMQ161VSN821MP35S; Voltage: 250V; Tolerance: +-20%; TypeComp: Capasitor; Value: 560мк; Quantity: 1; Package: 25.4mm×30mm; Price: *; Manufacturer: *; ShoppingPlace: *; Documentation: https://ru.mouser.com/datasheet/2/420/United-Chemi-Con-552877.pdf
pins: 1, 2

## ESMQ251VSN561MR25S
designator C?, comment 560мк  (value not drawn)
Aluminium Electrolytic Capacitors - Radial Leaded ALUMINUM ELECTROLYTIC RADIAL 560UF 250 V; Part Number: ESMQ161VSN821MP35S; Voltage: 250V; Tolerance: +-20%; TypeComp: Capasitor; Value: 560мк; Quantity: 1; Package: 30mm×25mm; Price: *; Manufacturer: *; ShoppingPlace: *; Documentation: https://ru.mouser.com/datasheet/2/420/United-Chemi-Con-552877.pdf
pins: 1, 2

## ESMQ251VSN681MP45S
designator C?, comment 680мк  (value not drawn)
Aluminium Electrolytic Capacitors - Radial Leaded ALUMINUM ELECTROLYTIC RADIAL 680UF 250 V; Part Number: ESMQ161VSN821MP35S; Voltage: 250V; Tolerance: +-20%; TypeComp: Capasitor; Value: 680мк; Quantity: 1; Package: 22mm×45mm; Price: *; Manufacturer: *; ShoppingPlace: *; Documentation: https://ru.mouser.com/datasheet/2/420/United-Chemi-Con-552877.pdf
pins: 1, 2

## ESMQ251VSN681MQ35S
designator C?, comment 680мк  (value not drawn)
Aluminium Electrolytic Capacitors - Radial Leaded ALUMINUM ELECTROLYTIC RADIAL 680UF 250 V; Part Number: ESMQ161VSN821MP35S; Voltage: 250V; Tolerance: +-20%; TypeComp: Capasitor; Value: 680мк; Quantity: 1; Package: 25.4mm×35mm; Price: *; Manufacturer: *; ShoppingPlace: *; Documentation: https://ru.mouser.com/datasheet/2/420/United-Chemi-Con-552877.pdf
pins: 1, 2

## ESMQ251VSN681MR30S
designator C?, comment 680мк  (value not drawn)
Aluminium Electrolytic Capacitors - Radial Leaded ALUMINUM ELECTROLYTIC RADIAL 680UF 250 V; Part Number: ESMQ161VSN821MP35S; Voltage: 250V; Tolerance: +-20%; TypeComp: Capasitor; Value: 680мк; Quantity: 1; Package: 30mm×30mm; Price: *; Manufacturer: *; ShoppingPlace: *; Documentation: https://ru.mouser.com/datasheet/2/420/United-Chemi-Con-552877.pdf
pins: 1, 2

## ESMQ251VSN821MA25S
designator C?, comment 820мк  (value not drawn)
Aluminium Electrolytic Capacitors - Radial Leaded ALUMINUM ELECTROLYTIC RADIAL 820UF 250 V; Part Number: ESMQ161VSN821MP35S; Voltage: 250V; Tolerance: +-20%; TypeComp: Capasitor; Value: 820мк; Quantity: 1; Package: 35mm×25mm; Price: *; Manufacturer: *; ShoppingPlace: *; Documentation: https://ru.mouser.com/datasheet/2/420/United-Chemi-Con-552877.pdf
pins: 1, 2

## ESMQ251VSN821MP50S
designator C?, comment 820мк  (value not drawn)
Aluminium Electrolytic Capacitors - Radial Leaded ALUMINUM ELECTROLYTIC RADIAL 820UF 250 V; Part Number: ESMQ161VSN821MP35S; Voltage: 250V; Tolerance: +-20%; TypeComp: Capasitor; Value: 820мк; Quantity: 1; Package: 22mm×50mm; Price: *; Manufacturer: *; ShoppingPlace: *; Documentation: https://ru.mouser.com/datasheet/2/420/United-Chemi-Con-552877.pdf
pins: 1, 2

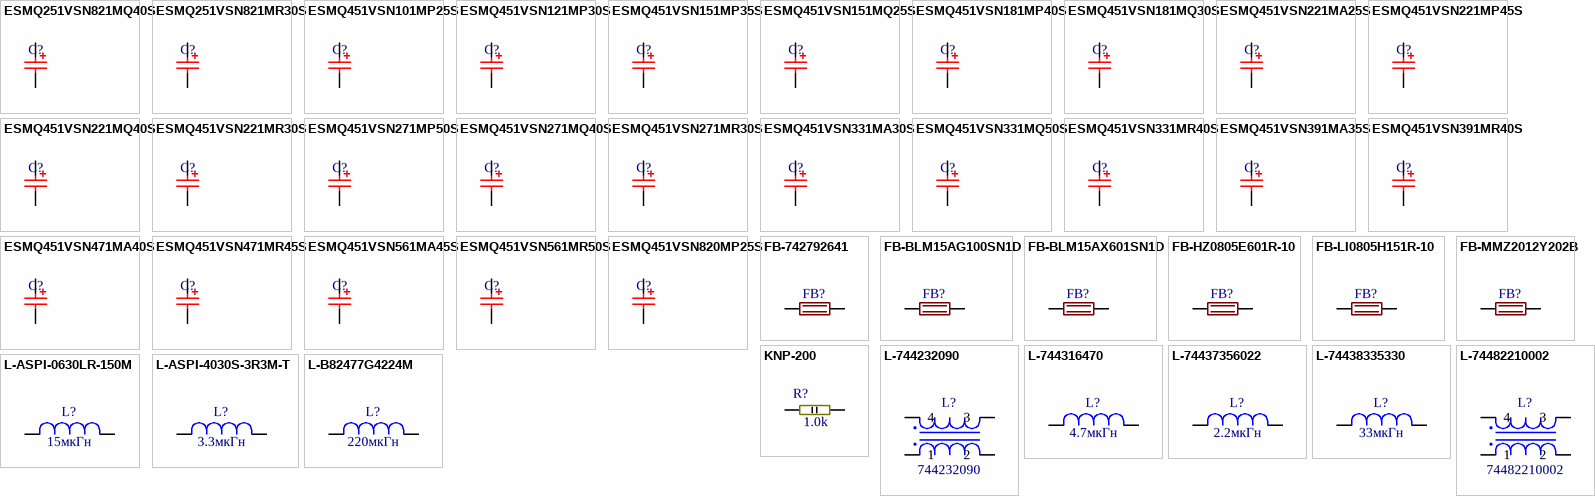
[diagram p2: symbols ESMQ251VSN821MQ40S to L-B82477G4224M]

## ESMQ251VSN821MQ40S
designator C?, comment 820мк  (value not drawn)
Aluminium Electrolytic Capacitors - Radial Leaded ALUMINUM ELECTROLYTIC RADIAL 820UF 250 V; Part Number: ESMQ161VSN821MP35S; Voltage: 250V; Tolerance: +-20%; TypeComp: Capasitor; Value: 820мк; Quantity: 1; Package: 25.4mm×40mm; Price: *; Manufacturer: *; ShoppingPlace: *; Documentation: https://ru.mouser.com/datasheet/2/420/United-Chemi-Con-552877.pdf
pins: 1, 2

## ESMQ251VSN821MR30S
designator C?, comment 820мк  (value not drawn)
Aluminium Electrolytic Capacitors - Radial Leaded ALUMINUM ELECTROLYTIC RADIAL 820UF 250 V; Part Number: ESMQ161VSN821MP35S; Voltage: 250V; Tolerance: +-20%; TypeComp: Capasitor; Value: 820мк; Quantity: 1; Package: 30mm×30mm; Price: *; Manufacturer: *; ShoppingPlace: *; Documentation: https://ru.mouser.com/datasheet/2/420/United-Chemi-Con-552877.pdf
pins: 1, 2

## ESMQ451VSN101MP25S
designator C?, comment 100мк  (value not drawn)
Aluminium Electrolytic Capacitors - Radial Leaded ALUMINUM ELECTROLYTIC RADIAL 100UF 450 V; Part Number: ESMQ161VSN821MP35S; Voltage: 450V; Tolerance: +-20%; TypeComp: Capasitor; Value: 100мк; Quantity: 1; Package: 22mm×25mm; Price: *; Manufacturer: *; ShoppingPlace: *; Documentation: https://ru.mouser.com/datasheet/2/420/United-Chemi-Con-552877.pdf
pins: 1, 2

## ESMQ451VSN121MP30S
designator C?, comment 120мк  (value not drawn)
Aluminium Electrolytic Capacitors - Radial Leaded ALUMINUM ELECTROLYTIC RADIAL 120UF 450 V; Part Number: ESMQ161VSN821MP35S; Voltage: 450V; Tolerance: +-20%; TypeComp: Capasitor; Value: 120мк; Quantity: 1; Package: 22mm×30mm; Price: *; Manufacturer: *; ShoppingPlace: *; Documentation: https://ru.mouser.com/datasheet/2/420/United-Chemi-Con-552877.pdf
pins: 1, 2

## ESMQ451VSN151MP35S
designator C?, comment 150мк  (value not drawn)
Aluminium Electrolytic Capacitors - Radial Leaded ALUMINUM ELECTROLYTIC RADIAL 150UF 450 V; Part Number: ESMQ161VSN821MP35S; Voltage: 450V; Tolerance: +-20%; TypeComp: Capasitor; Value: 150мк; Quantity: 1; Package: 22mm×35mm; Price: *; Manufacturer: *; ShoppingPlace: *; Documentation: https://ru.mouser.com/datasheet/2/420/United-Chemi-Con-552877.pdf
pins: 1, 2

## ESMQ451VSN151MQ25S
designator C?, comment 150мк  (value not drawn)
Aluminium Electrolytic Capacitors - Radial Leaded ALUMINUM ELECTROLYTIC RADIAL 150UF 450 V; Part Number: ESMQ161VSN821MP35S; Voltage: 450V; Tolerance: +-20%; TypeComp: Capasitor; Value: 150мк; Quantity: 1; Package: 25.4mm×25mm; Price: *; Manufacturer: *; ShoppingPlace: *; Documentation: https://ru.mouser.com/datasheet/2/420/United-Chemi-Con-552877.pdf
pins: 1, 2

## ESMQ451VSN181MP40S
designator C?, comment 180мк  (value not drawn)
Aluminium Electrolytic Capacitors - Radial Leaded ALUMINUM ELECTROLYTIC RADIAL 180UF 450 V; Part Number: ESMQ161VSN821MP35S; Voltage: 450V; Tolerance: +-20%; TypeComp: Capasitor; Value: 180мк; Quantity: 1; Package: 22mm×40mm; Price: *; Manufacturer: *; ShoppingPlace: *; Documentation: https://ru.mouser.com/datasheet/2/420/United-Chemi-Con-552877.pdf
pins: 1, 2

## ESMQ451VSN181MQ30S
designator C?, comment 180мк  (value not drawn)
Aluminium Electrolytic Capacitors - Radial Leaded ALUMINUM ELECTROLYTIC RADIAL 180UF 450 V; Part Number: ESMQ161VSN821MP35S; Voltage: 450V; Tolerance: +-20%; TypeComp: Capasitor; Value: 180мк; Quantity: 1; Package: 25.4mm×30mm; Price: *; Manufacturer: *; ShoppingPlace: *; Documentation: https://ru.mouser.com/datasheet/2/420/United-Chemi-Con-552877.pdf
pins: 1, 2

## ESMQ451VSN221MA25S
designator C?, comment 220мк  (value not drawn)
Aluminium Electrolytic Capacitors - Radial Leaded ALUMINUM ELECTROLYTIC RADIAL 220UF 450 V; Part Number: ESMQ161VSN821MP35S; Voltage: 450V; Tolerance: +-20%; TypeComp: Capasitor; Value: 220мк; Quantity: 1; Package: 35mm x 25mm; Price: *; Manufacturer: *; ShoppingPlace: *; Documentation: https://ru.mouser.com/datasheet/2/420/United-Chemi-Con-552877.pdf
pins: 1, 2

## ESMQ451VSN221MP45S
designator C?, comment 220мк  (value not drawn)
Aluminium Electrolytic Capacitors - Radial Leaded ALUMINUM ELECTROLYTIC RADIAL 220UF 450 V; Part Number: ESMQ161VSN821MP35S; Voltage: 450V; Tolerance: +-20%; TypeComp: Capasitor; Value: 220мк; Quantity: 1; Package: 22mm×45mm; Price: *; Manufacturer: *; ShoppingPlace: *; Documentation: https://ru.mouser.com/datasheet/2/420/United-Chemi-Con-552877.pdf
pins: 1, 2

## ESMQ451VSN221MQ40S
designator C?, comment 220мк  (value not drawn)
Aluminium Electrolytic Capacitors - Radial Leaded ALUMINUM ELECTROLYTIC RADIAL 220UF 450 V; Part Number: ESMQ161VSN821MP35S; Voltage: 450V; Tolerance: +-20%; TypeComp: Capasitor; Value: 220мк; Quantity: 1; Package: 25.4mm×40mm; Price: *; Manufacturer: *; ShoppingPlace: *; Documentation: https://ru.mouser.com/datasheet/2/420/United-Chemi-Con-552877.pdf
pins: 1, 2

## ESMQ451VSN221MR30S
designator C?, comment 220мк  (value not drawn)
Aluminium Electrolytic Capacitors - Radial Leaded ALUMINUM ELECTROLYTIC RADIAL 220UF 450 V; Part Number: ESMQ161VSN821MP35S; Voltage: 450V; Tolerance: +-20%; TypeComp: Capasitor; Value: 220мк; Quantity: 1; Package: 30mm x 30mm; Price: *; Manufacturer: *; ShoppingPlace: *; Documentation: https://ru.mouser.com/datasheet/2/420/United-Chemi-Con-552877.pdf
pins: 1, 2

## ESMQ451VSN271MP50S
designator C?, comment 270мк  (value not drawn)
Aluminium Electrolytic Capacitors - Radial Leaded ALUMINUM ELECTROLYTIC RADIAL 270UF 450 V; Part Number: ESMQ161VSN821MP35S; Voltage: 450V; Tolerance: +-20%; TypeComp: Capasitor; Value: 270мк; Quantity: 1; Package: 22mm x 50mm; Price: *; Manufacturer: *; ShoppingPlace: *; Documentation: https://ru.mouser.com/datasheet/2/420/United-Chemi-Con-552877.pdf
pins: 1, 2

## ESMQ451VSN271MQ40S
designator C?, comment 270мк  (value not drawn)
Aluminium Electrolytic Capacitors - Radial Leaded ALUMINUM ELECTROLYTIC RADIAL 270UF 450 V; Part Number: ESMQ161VSN821MP35S; Voltage: 450V; Tolerance: +-20%; TypeComp: Capasitor; Value: 270мк; Quantity: 1; Package: 25.4mm x 40mm; Price: *; Manufacturer: *; ShoppingPlace: *; Documentation: https://ru.mouser.com/datasheet/2/420/United-Chemi-Con-552877.pdf
pins: 1, 2

## ESMQ451VSN271MR30S
designator C?, comment 270мк  (value not drawn)
Aluminium Electrolytic Capacitors - Radial Leaded ALUMINUM ELECTROLYTIC RADIAL 270UF 450 V; Part Number: ESMQ161VSN821MP35S; Voltage: 450V; Tolerance: +-20%; TypeComp: Capasitor; Value: 270мк; Quantity: 1; Package: 30mm x 30mm; Price: *; Manufacturer: *; ShoppingPlace: *; Documentation: https://ru.mouser.com/datasheet/2/420/United-Chemi-Con-552877.pdf
pins: 1, 2

## ESMQ451VSN331MA30S
designator C?, comment 330мк  (value not drawn)
Aluminium Electrolytic Capacitors - Radial Leaded ALUMINUM ELECTROLYTIC RADIAL 330UF 450 V; Part Number: ESMQ161VSN821MP35S; Voltage: 450V; Tolerance: +-20%; TypeComp: Capasitor; Value: 330мк; Quantity: 1; Package: 35mm x 30mm; Price: *; Manufacturer: *; ShoppingPlace: *; Documentation: https://ru.mouser.com/datasheet/2/420/United-Chemi-Con-552877.pdf
pins: 1, 2

## ESMQ451VSN331MQ50S
designator C?, comment 330мк  (value not drawn)
Aluminium Electrolytic Capacitors - Radial Leaded ALUMINUM ELECTROLYTIC RADIAL 330UF 450 V; Part Number: ESMQ161VSN821MP35S; Voltage: 450V; Tolerance: +-20%; TypeComp: Capasitor; Value: 330мк; Quantity: 1; Package: 25.4mm x 50mm; Price: *; Manufacturer: *; ShoppingPlace: *; Documentation: https://ru.mouser.com/datasheet/2/420/United-Chemi-Con-552877.pdf
pins: 1, 2

## ESMQ451VSN331MR40S
designator C?, comment 330мк  (value not drawn)
Aluminium Electrolytic Capacitors - Radial Leaded ALUMINUM ELECTROLYTIC RADIAL 330UF 450 V; Part Number: ESMQ161VSN821MP35S; Voltage: 450V; Tolerance: +-20%; TypeComp: Capasitor; Value: 330мк; Quantity: 1; Package: 30mm x 40mm; Price: *; Manufacturer: *; ShoppingPlace: *; Documentation: https://ru.mouser.com/datasheet/2/420/United-Chemi-Con-552877.pdf
pins: 1, 2

## ESMQ451VSN391MA35S
designator C?, comment 390мк  (value not drawn)
Aluminium Electrolytic Capacitors - Radial Leaded ALUMINUM ELECTROLYTIC RADIAL 390UF 450 V; Part Number: ESMQ161VSN821MP35S; Voltage: 450V; Tolerance: +-20%; TypeComp: Capasitor; Value: 390мк; Quantity: 1; Package: 35mm x 35mm; Price: *; Manufacturer: *; ShoppingPlace: *; Documentation: https://ru.mouser.com/datasheet/2/420/United-Chemi-Con-552877.pdf
pins: 1, 2